# EAGLE library part HEADER-01X08 (library dan-header)
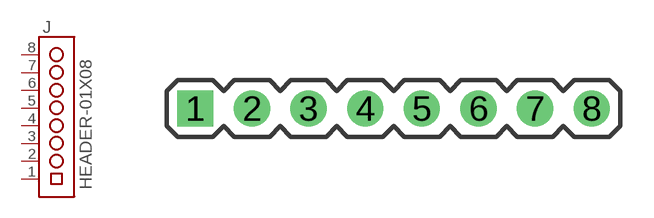
[diagram p1: symbol with the pads of HEADER-BREAKAWAY-100MIL-01X08; footprint HEADER-BREAKAWAY-100MIL-01X08]

Designator prefix J

## HEADER-01X08  [HEADER-BREAKAWAY-100MIL-01X08]
1  1  pas
2  2  pas
3  3  pas
4  4  pas
5  5  pas
6  6  pas
7  7  pas
8  8  pas

## Footprint HEADER-BREAKAWAY-100MIL-01X08 (pad centres in mm)
drill 1.016 pad 1.626 square: 1 -8.89,0
drill 1.016 pad 1.626 round: 2 -6.35,0; 3 -3.81,0; 4 -1.27,0; 5 1.27,0; 6 3.81,0; 7 6.35,0; 8 8.89,0